# Altium schematic symbol library TGIS_Protoboard.SchLib: 1 symbol
Pins are listed as number, name and electrical type; pins without a type are passive.

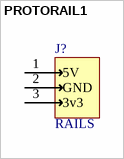
[diagram p0: symbol PROTORAIL1]

## PROTORAIL1
designator J?, comment RAILS  (no BOM)
footprint 75x95VIAS
pins: 1 5V, 2 GND, 3 3v3